# EAGLE library part MCP6284-E/SL (library stutz-eagle)
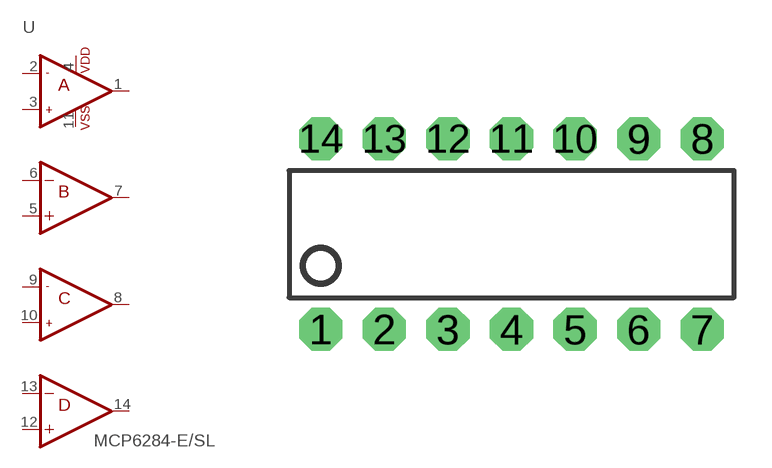
[diagram p12: symbol with the pads of PDIP-14PIN; footprint PDIP-14PIN]

Designator prefix -

## MCP6284-E/SL  [PDIP-14PIN]
1  OUTA  out
2  INA-  in
3  INA+  in
4  VDD  pwr
5  INB+  in
6  INB-  in
7  OUTB  out
8  OUTC  out
9  INC-  in
10  INC+  in
11  VSS  pwr
12  IND+  in
13  IND-  in
14  OUTD  out

## Footprint PDIP-14PIN (pad centres in mm)
drill 0.813 pad 1.727 octagon: 1 -7.62,-3.81; 2 -5.08,-3.81; 3 -2.54,-3.81; 4 0,-3.81; 5 2.54,-3.81; 6 5.08,-3.81; 7 7.62,-3.81; 8 7.62,3.81; 9 5.08,3.81; 10 2.54,3.81; 11 0,3.81; 12 -2.54,3.81; 13 -5.08,3.81; 14 -7.62,3.81